# EAGLE library part POLOLU-A4983/A4988 (library satnogs)
Stepper motor driver https://www.pololu.com/product/1182
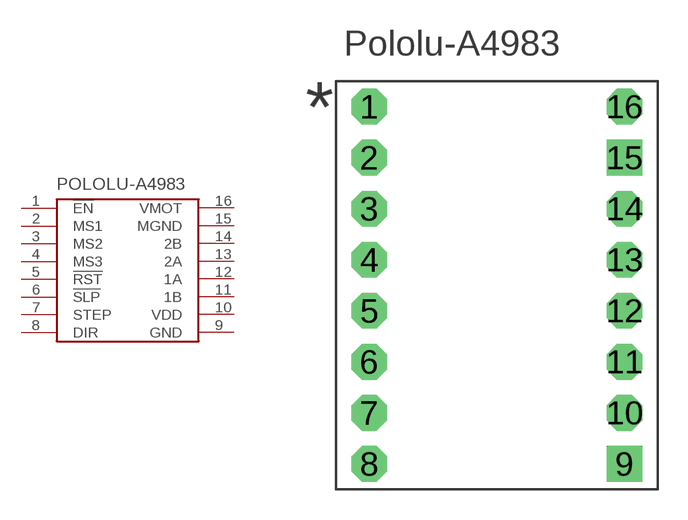
[diagram p1: symbol with the pads of POLOLU-A4983; footprint POLOLU-A4983]

Designator prefix B

## POLOLU-A4983/A4988"  [POLOLU-A4983]
1  !EN
2  MS1
3  MS2
4  MS3
5  !RST
6  !SLP
7  STEP
8  DIR
9  GND
10  VDD
11  1B
12  1A
13  2A
14  2B
15  MGND
16  VMOT

## Footprint POLOLU-A4983 (pad centres in mm)
drill 1 pad 1.778 octagon: 1 -6.35,8.89; 2 -6.35,6.35; 3 -6.35,3.81; 4 -6.35,1.27; 5 -6.35,-1.27; 6 -6.35,-3.81; 7 -6.35,-6.35; 8 -6.35,-8.89; 10 6.35,-6.35; 11 6.35,-3.81; 12 6.35,-1.27; 13 6.35,1.27; 14 6.35,3.81; 16 6.35,8.89
drill 1 pad 1.778 square: 9 6.35,-8.89; 15 6.35,6.35